# Altium footprint library Wurth_Elektronik_Passive_rev16a.PCBLIB: 810 footprints (part 11 of 51)
Each footprint in its own frame and in the unit in brackets; x right, y up, seen from the top. Pads: shape width x height; smd on the part's side, far side on the other; paste and mask are expansions set on the pad; w line width, h text height; cw(c..) or ccw(c..) is an arc to the next point about the centre after c.
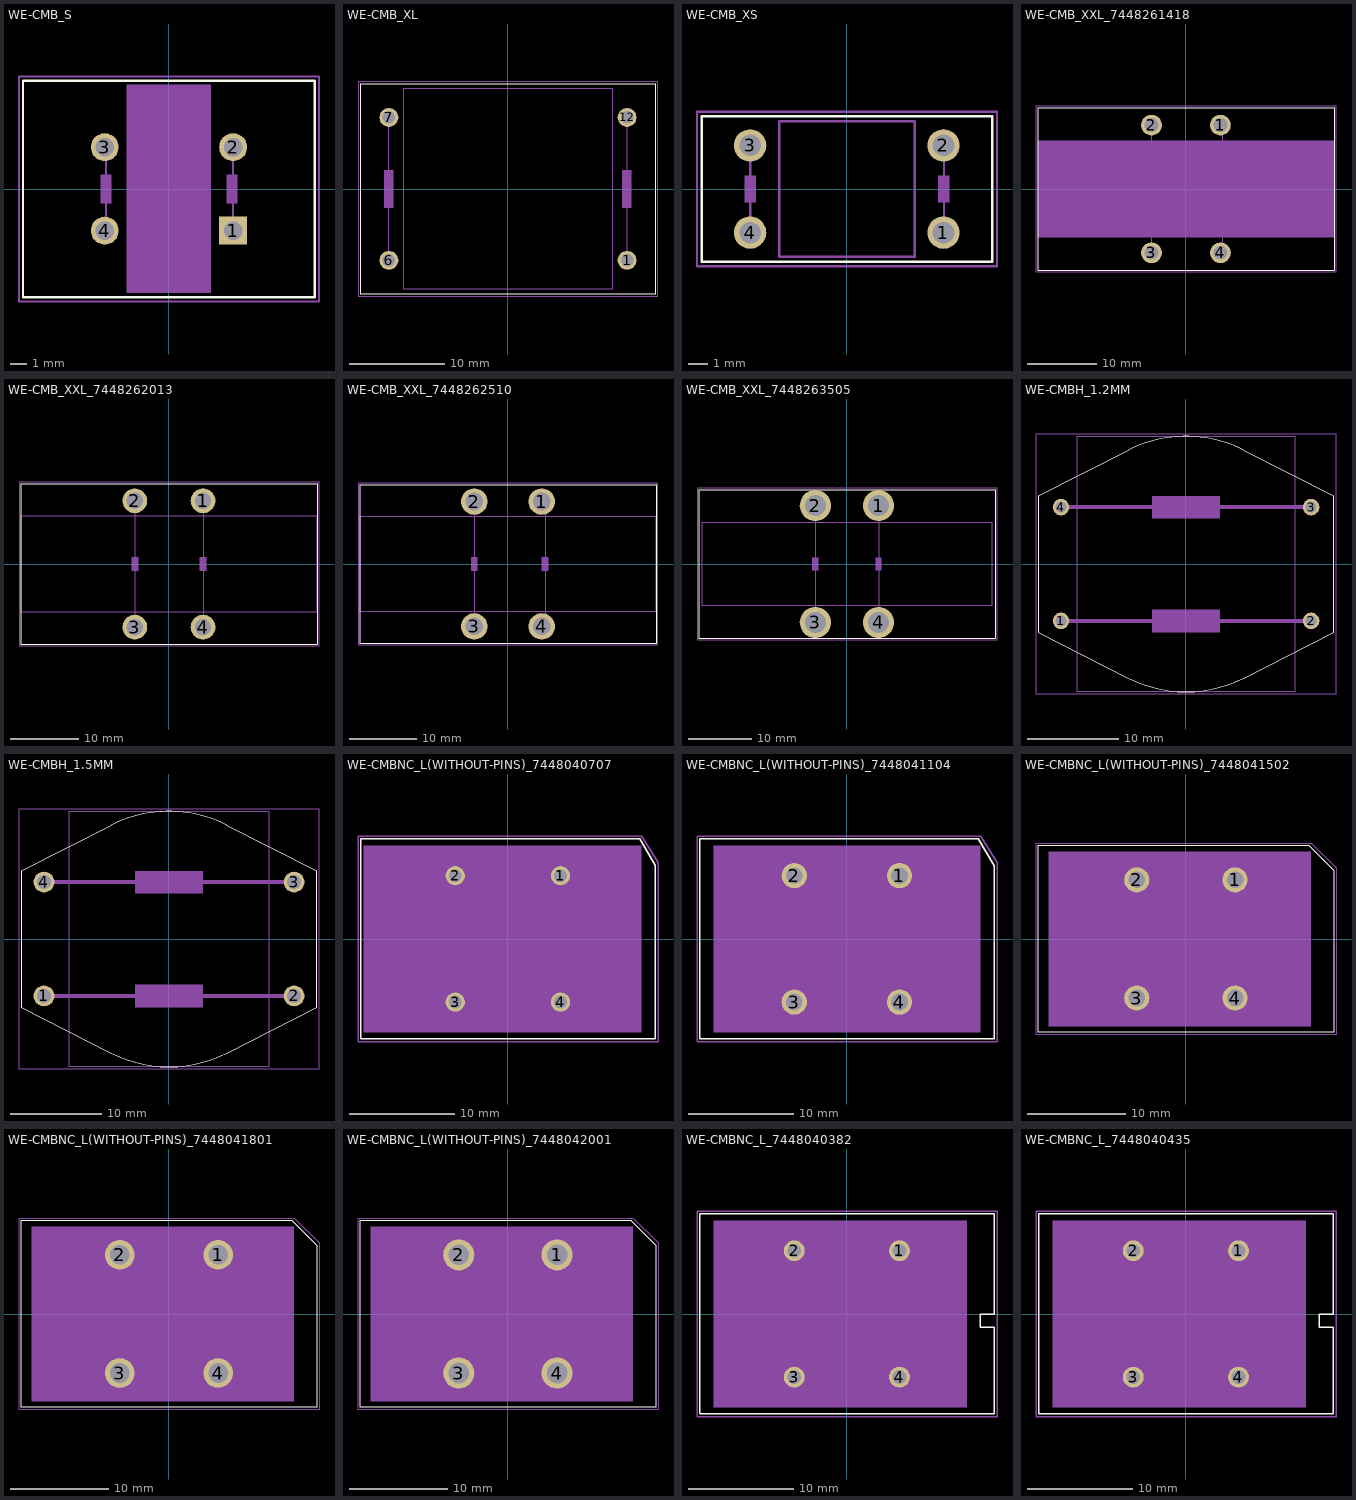
[diagram p10: the footprints below, top view; thin cyan lines are the x and y axes]

## WE-CMB_S [mil]
pads (4):
  rect 66x66 hole 44: 1(152,-98.43)
  round 66 hole 44: 2(152,99) 3(-151.57,99) 4(-151.57,-98.43)
Top Overlay:
  lines w5: -344.49,-255.91 345,-255.91 345,256 -344.49,256 -344.49,-255.91
Mechanical 2:
  text ">NAME" at -360,350 h108.5
Mechanical 4:
  text ">VALUE" at -360,-370 h108.5
Mechanical 10:
  rectangle: -100,-246.06 100,247
Mechanical 16:
  region: -135.43,35 -161.42,35 -161.42,-34.65 -135.43,-34.65
  region: 162,35 136,35 136,-34.65 162,-34.65
  lines w5: -151.57,99 -148.43,99 -148.43,-98.43 ; 152,-98.43 152,99
Mechanical 27:
  lines w5: -354.33,-265.75 -354.33,266 355,266 355,-265.75 -354.33,-265.75

## WE-CMB_XL [mil]
pads (4):
  round 78 hole 52: 1(493,-295.28) 6(-492.13,-295.28) 7(-492.13,296) 12(493,296)
Top Overlay:
  lines w3: -610.24,-433.07 -610.24,434 611,434 611,-433.07 -610.24,-433.07
Mechanical 2:
  text ">NAME" at -562.76,480 h108.5
Mechanical 4:
  text ">VALUE" at -584.02,-544.25 h108.5
Mechanical 10:
  lines w5: -433.07,-413.39 -433.07,414 434,414 434,-413.39 -433.07,-413.39
Mechanical 16:
  region: 512,79 473,79 473,-78.74 512,-78.74
  region: -472.44,79 -511.81,79 -511.81,-78.74 -472.44,-78.74
  lines w3: -492.13,-295.28 -492.13,296 ; 493,-295.28 493,296
Mechanical 27:
  lines w5: -620.08,-442.91 -620.08,443 621,443 621,-442.91 -620.08,-442.91

## WE-CMB_XS [mil]
pads (4):
  round 66 hole 44: 1(197,-88.58) 2(197,89) 3(-196.85,89) 4(-196.85,-88.58)
Top Overlay:
  lines w5: -295.28,-147.64 296,-147.64 296,148 -295.28,148 -295.28,-147.64
Mechanical 2:
  text ">NAME" at -257.09,186 h77.5
Mechanical 4:
  text ">VALUE" at -248.82,-223.23 h77.5
Mechanical 10:
  lines w5: -137.8,-137.8 -137.8,138 138,138 138,-137.8 -137.8,-137.8
Mechanical 16:
  rectangle: -208.66,-27.56 -185.04,28
  rectangle: 186,-27.56 209,28
  lines w5: -196.85,-88.58 -196.85,89 ; 198,89 198,-88.98 199,-88.98
Mechanical 27:
  lines w5: -305.12,-157.48 -305.12,158 306,158 306,-157.48 -305.12,-157.48

## WE-CMB_XXL_7448261418 [mil]
pads (4):
  round 118.5 hole 79: 1(197,365) 2(-196.85,365) 3(-196.85,-364.17) 4(197,-364.17)
Top Overlay:
  lines w5: -846.46,-462.6 847,-462.6 847,463 -846.46,463 -846.46,-462.6
Mechanical 2:
  text ">NAME" at -787.4,512 h77.5
Mechanical 4:
  text ">VALUE" at -787.4,-570.87 h77.5
Mechanical 10:
  rectangle: -846.46,-275.59 847,276
Mechanical 16:
  rectangle: -216.54,-39.37 -177.17,40
  rectangle: 197,-39.37 237,40
  lines w5: -196.85,-354.33 -196.85,355 ; 207,-354.33 207,355
Mechanical 27:
  lines w5: -856.3,-472.44 -856.3,473 857,473 857,-472.44 -856.3,-472.44

## WE-CMB_XXL_7448262013 [mil]
pads (4):
  round 142.5 hole 95: 1(197,365) 2(-196.85,365) 3(-196.85,-364.17) 4(197,-364.17)
Top Overlay:
  lines w5: -856.3,-462.6 857,-462.6 857,463 -856.3,463 -856.3,-462.6
Mechanical 2:
  text ">NAME" at -905.51,493 h77.5
Mechanical 4:
  text ">VALUE" at -905.51,-551.18 h77.5
Mechanical 10:
  lines w5: -856.3,-275.59 -856.3,276 857,276 857,-275.59 -856.3,-275.59
Mechanical 16:
  rectangle: -216.54,-39.37 -177.17,40
  rectangle: 178,-39.37 217,40
  lines w5: -196.85,-354.33 -196.85,355 ; 197,-334.65 197,355
Mechanical 27:
  lines w5: -866.14,-472.44 -866.14,473 867,473 867,-472.44 -866.14,-472.44

## WE-CMB_XXL_7448262510 [mil]
pads (4):
  round 154.5 hole 103: 1(197,365) 2(-196.85,365) 3(-196.85,-364.17) 4(197,-364.17)
Top Overlay:
  lines w5: -866.14,-462.6 867,-462.6 867,463 -866.14,463 -866.14,-462.6
Mechanical 2:
  text ">NAME" at -916.14,497 h77.5
Mechanical 4:
  text ">VALUE" at -916.14,-536.22 h77.5
Mechanical 10:
  lines w5: -866.14,-275.59 -866.14,276 867,276 867,-275.59 -866.14,-275.59
Mechanical 16:
  rectangle: -216.54,-39.37 -177.17,40
  rectangle: 197,-39.37 237,40
  lines w5: -196.85,-354.33 -196.85,355 ; 217,-354.33 217,355
Mechanical 27:
  lines w5: -875.98,-472.44 -875.98,473 876,473 876,-472.44 -875.98,-472.44

## WE-CMB_XXL_7448263505 [mil]
pads (4):
  round 195 hole 130: 1(197,365) 2(-196.85,365) 3(-196.85,-364.17) 4(197,-364.17)
Top Overlay:
  lines w5: -925.2,-462.6 926,-462.6 926,463 -925.2,463 -925.2,-462.6
Mechanical 2:
  text ">NAME" at -916.14,558 h77.5
Mechanical 4:
  text ">VALUE" at -966.14,-566.54 h77.5
Mechanical 10:
  lines w5: -905.51,-255.91 -905.51,256 906,256 906,-255.91 -905.51,-255.91
Mechanical 16:
  rectangle: -216.54,-39.37 -177.17,40
  rectangle: 178,-39.37 217,40
  lines w5: -196.85,-354.33 -196.85,355 ; 197,-354.33 197,355
Mechanical 27:
  lines w5: -935.04,-472.44 -935.04,473 936,473 936,-472.44 -935.04,-472.44

## WE-CMBH_1.2MM [mil]
pads (4):
  round 72 hole 48: 1(-541.34,-246.06) 2(542,-246.06) 3(542,247) 4(-541.34,247)
Top Overlay:
  lines w5: -639.76,-295.28 -639.76,296 -249.52,494 cw(c0.24,2.05) 250,494 640,296 640,-295.28 250,-493.4 cw(c0.24,-1.46) -249.52,-493.4 -639.76,-295.28
Mechanical 2:
  text ">NAME" at -600.39,611 h77.5
Mechanical 4:
  text ">VALUE" at -600.39,-659.45 h77.5
Mechanical 10:
  lines w5: -472.44,-551.18 -472.44,552 473,552 473,-551.18 -472.44,-551.18
Mechanical 16:
  rectangle: -147.64,197 148,296
  rectangle: -147.64,-295.28 148,-196.85
  lines w16: -541.34,-246.06 542,-246.06 ; -541.34,247 542,247
Mechanical 27:
  lines w5: -649.61,-561.02 -649.61,562 650,562 650,-561.02 -649.61,-561.02

## WE-CMBH_1.5MM [mil]
pads (4):
  round 90 hole 60: 1(-541.34,-246.06) 2(542,-246.06) 3(542,247) 4(-541.34,247)
Top Overlay:
  lines w5: -639.76,-295.28 -639.76,296 -249.52,494 cw(c0.24,2.05) 250,494 640,296 640,-295.28 250,-493.4 cw(c0.24,-1.46) -249.52,-493.4 -639.76,-295.28
Mechanical 2:
  text ">NAME" at -639.76,611 h77.5
Mechanical 4:
  text ">VALUE" at -600.39,-659.45 h77.5
Mechanical 10:
  lines w5: -433.07,-551.18 -433.07,552 434,552 434,-551.18 -433.07,-551.18
Mechanical 16:
  rectangle: -147.64,197 148,296
  rectangle: -147.64,-295.28 148,-196.85
  lines w16: -541.34,-246.06 542,-246.06 ; -541.34,247 542,247
Mechanical 27:
  lines w5: -649.61,-561.02 -649.61,562 650,562 650,-561.02 -649.61,-561.02

## WE-CMBNC_L(WITHOUT-PINS)_7448040707 [mil]
pads (4):
  round 72 hole 48: 1(197,237) 2(-196.85,237) 3(-196.85,-236.22) 4(197,-236.22)
Top Overlay:
  lines w5: -551.18,-374.02 552,-374.02 552,276 493,375 -551.18,375 -551.18,-374.02
Mechanical 2:
  text ">NAME" at -568.11,426 h77.5
Mechanical 4:
  text ">VALUE" at -537.8,-484.65 h77.5
Mechanical 10:
  rectangle: -541.34,-350 500,350
Mechanical 27:
  lines w5: -561.02,-383.86 562,-383.86 562,286 502,384 -561.02,384 -561.02,-383.86

## WE-CMBNC_L(WITHOUT-PINS)_7448041104 [mil]
pads (4):
  round 94.5 hole 63: 1(197,237) 2(-196.85,237) 3(-196.85,-236.22) 4(197,-236.22)
Top Overlay:
  lines w5: -551.18,-374.02 552,-374.02 552,275 491,375 -551.18,375 -551.18,-374.02
Mechanical 2:
  text ">NAME" at -568.11,476 h77.5
Mechanical 4:
  text ">VALUE" at -537.8,-484.65 h77.5
Mechanical 10:
  rectangle: -500,-350 500,350
Mechanical 27:
  lines w5: -561.02,-383.86 562,-383.86 562,286 502,384 -561.02,384 -561.02,-383.86

## WE-CMBNC_L(WITHOUT-PINS)_7448041502 [mil]
pads (4):
  round 100.5 hole 67: 1(197,237) 2(-196.85,237) 3(-196.85,-236.22) 4(197,-236.22)
Top Overlay:
  lines w5: -590.55,-374.02 591,-374.02 ; -590.55,-374.02 -590.55,375 ; -590.55,-374.02 591,-374.02 ; -590.55,-374.02 -590.55,375 ; -590.55,375 491,375 ; -590.55,375 491,375 ; 491,375 591,275 ; 491,375 591,275 ; 591,-374.02 591,275 ; 591,-374.02 591,275
Mechanical 2:
  text ">NAME" at -568.11,426 h77.5
Mechanical 4:
  text ">VALUE" at -537.8,-484.65 h77.5
Mechanical 10:
  rectangle: -550,-350 500,350
Mechanical 27:
  lines w5: -600.39,-383.86 601,-383.86 601,286 502,384 -600.39,384 -600.39,-383.86

## WE-CMBNC_L(WITHOUT-PINS)_7448041801 [mil]
pads (4):
  round 118.5 hole 79: 1(197,237) 2(-196.85,237) 3(-196.85,-236.22) 4(197,-236.22)
Top Overlay:
  lines w5: -590.55,-374.02 591,-374.02 ; -590.55,-374.02 -590.55,375 ; -590.55,-374.02 591,-374.02 ; -590.55,-374.02 -590.55,375 ; -590.55,375 491,375 ; -590.55,375 491,375 ; 491,375 591,275 ; 491,375 591,275 ; 591,-374.02 591,275 ; 591,-374.02 591,275
Mechanical 2:
  text ">NAME" at -618.11,476 h77.5
Mechanical 4:
  text ">VALUE" at -637.8,-534.65 h77.5
Mechanical 10:
  rectangle: -550,-350 500,350
Mechanical 27:
  lines w5: -600.39,-383.86 601,-383.86 601,286 502,384 -600.39,384 -600.39,-383.86

## WE-CMBNC_L(WITHOUT-PINS)_7448042001 [mil]
pads (4):
  round 124.5 hole 83: 1(197,237) 2(-196.85,237) 3(-196.85,-236.22) 4(197,-236.22)
Top Overlay:
  lines w5: -590.55,-374.02 591,-374.02 ; -590.55,-374.02 -590.55,375 ; -590.55,-374.02 591,-374.02 ; -590.55,-374.02 -590.55,375 ; -590.55,375 491,375 ; -590.55,375 491,375 ; 491,375 591,275 ; 491,375 591,275 ; 591,-374.02 591,275 ; 591,-374.02 591,275
Mechanical 2:
  text ">NAME" at -618.11,426 h77.5
Mechanical 4:
  text ">VALUE" at -637.8,-484.65 h77.5
Mechanical 10:
  rectangle: -550,-350 500,350
Mechanical 27:
  lines w5: -600.39,-383.86 601,-383.86 601,286 502,384 -600.39,384 -600.39,-383.86

## WE-CMBNC_L_7448040382 [mil]
pads (4):
  round 78 hole 52: 1(197,237) 2(-196.85,237) 3(-196.85,-236.22) 4(197,-236.22)
Top Overlay:
  lines w5: -551.18,-374.02 552,-374.02 552,-50 500,-50 500,0 552,0 552,375 -551.18,375 -551.18,-374.02
Mechanical 2:
  text ">NAME" at -568.11,476 h77.5
Mechanical 4:
  text ">VALUE" at -537.8,-484.65 h77.5
Mechanical 10:
  rectangle: -500,-350 450,350
Mechanical 27:
  lines w5: -561.02,-383.86 562,-383.86 562,384 -561.02,384 -561.02,-383.86

## WE-CMBNC_L_7448040435 [mil]
pads (4):
  round 78 hole 52: 1(197,237) 2(-196.85,237) 3(-196.85,-236.22) 4(197,-236.22)
Top Overlay:
  lines w5: -551.18,-374.02 552,-374.02 552,-50 500,-50 500,0 552,0 552,375 -551.18,375 -551.18,-374.02
Mechanical 2:
  text ">NAME" at -568.11,476 h77.5
Mechanical 4:
  text ">VALUE" at -537.8,-484.65 h77.5
Mechanical 10:
  rectangle: -500,-350 450,350
Mechanical 27:
  lines w5: -561.02,-383.86 562,-383.86 562,384 -561.02,384 -561.02,-383.86